# EAGLE library part WE-DS_214613023 (library Wurth_Elektronik_Passive_rev16c)
WE-DS D-SUB-Filter Solder Cup Characteristics Easy soldering, even for small strand cross sections Standard type filtered with 1000 pF High attenuation: max. ≥ 40 dB @ 180 MHz Choice of UNC 4/40 or through hole Rated voltage: 100 VDC Rated current @ 20 ºC: 5 A Withstand voltage: 250 VRMS Insulation resistance: min. 1000 MΩ Operating temperature: –55 ºC to +125 ºC Applications Filtering of interfaces External connection to -printer -sensor -display <http://katalog.we-online.de/media/images/v2/Family_d-sub_filter_mit_loetkelch.jpg> Details see: http://katalog.we-online.de/en/pbs/D-SUB-FILTER-SOLDER-CUP/210613023 2016 (C) Wurth Elektronik
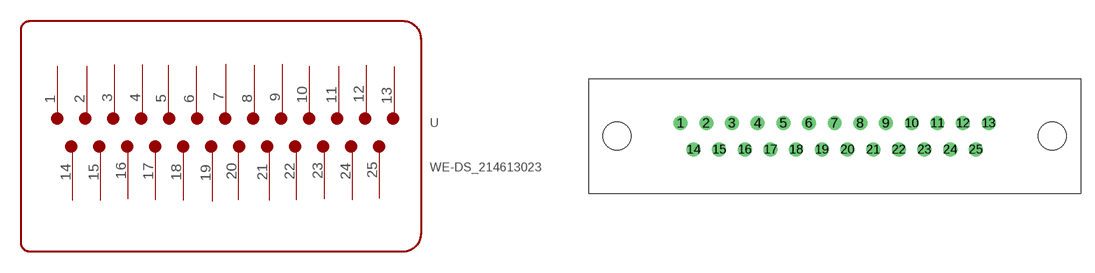
[diagram p249: symbol with the pads of WE-DS_2146130X3; footprint WE-DS_2146130X3]

Designator prefix -

## WE-DS_214613023  [WE-DS_2146130X3]
1  1
2  2
3  3
4  4
5  5
6  6
7  7
8  8
9  9
10  10
11  11
12  12
13  13
14  14
15  15
16  16
17  17
18  18
19  19
20  20
21  21
22  22
23  23
24  24
25  25

## Footprint WE-DS_2146130X3 (pad centres in mm)
drill 1: 1 -16.62,1.42; 2 -13.85,1.42; 3 -11.08,1.42; 4 -8.31,1.42; 5 -5.54,1.42; 6 -2.77,1.42; 7 0,1.42; 8 2.77,1.42; 9 5.54,1.42; 10 8.31,1.42; 11 11.08,1.42; 12 13.85,1.42; 13 16.62,1.42; 14 -15.235,-1.42; 15 -12.465,-1.42; 16 -9.695,-1.42; 17 -6.925,-1.42; 18 -4.155,-1.42; 19 -1.385,-1.42; 20 1.385,-1.42; 21 4.155,-1.42; 22 6.925,-1.42; 23 9.695,-1.42; 24 12.465,-1.42; 25 15.235,-1.42
hole 3 at -23.5,0
hole 3 at 23.5,0